# Altium schematic symbol library adc.SchLib: 4 symbols
Pins are listed as number, name and electrical type; pins without a type are passive.

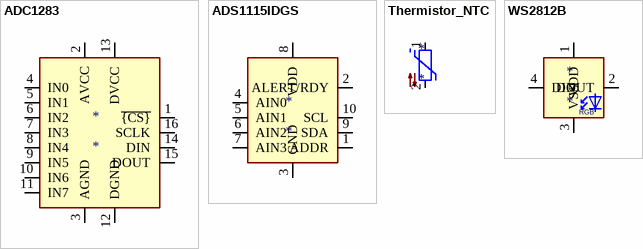
[diagram p0: symbols ADC1283 to WS2812B]

## ADC1283
designator *
pins: 1 ~{{CS}}, 2 AVCC, 3 AGND, 4 IN0, 5 IN1, 6 IN2, 7 IN3, 8 IN4, 9 IN5, 10 IN6, 11 IN7, 12 DGND, 13 DVCC, 14 DIN, 15 DOUT, 16 SCLK

## ADS1115IDGS
designator *
pins: 1 ADDR, 2 ALERT/RDY, 3 GND, 4 AIN0, 5 AIN1, 6 AIN2, 7 AIN3, 8 VDD, 9 SDA, 10 SCL

## Thermistor_NTC
designator *
pins: 1, 2

## WS2812B
designator *
pins: 1 VDD, 2 DOUT, 3 VSS, 4 DIN
text: RGB